# Altium integrated library alexsb.IntLib: 281 symbols (part 2 of 2)
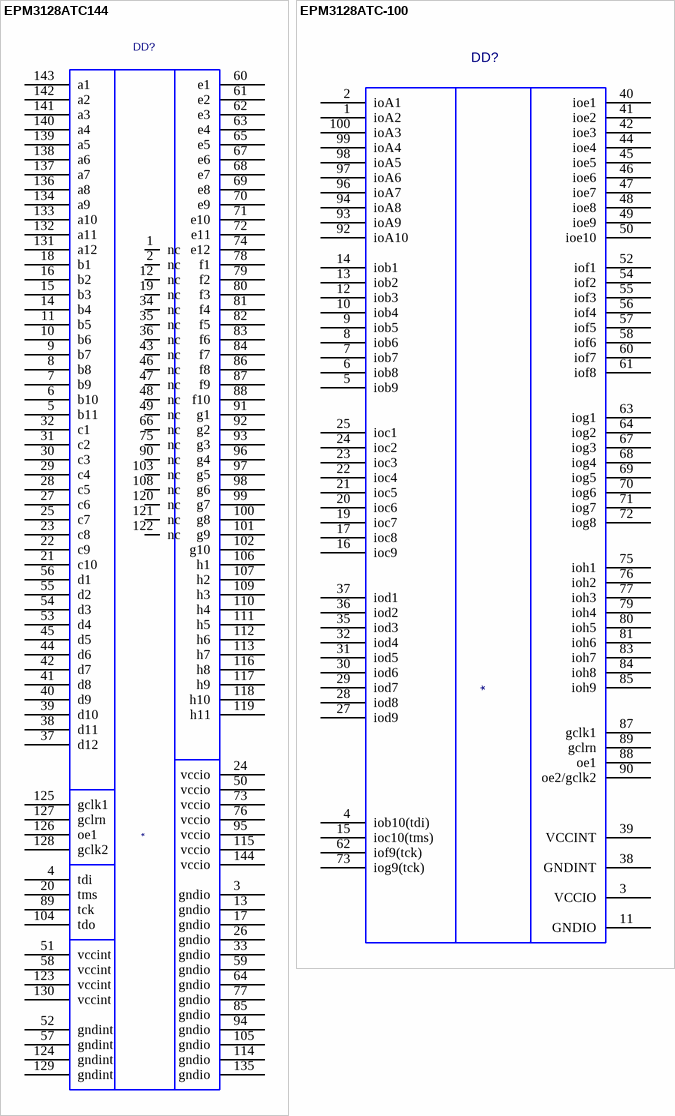
[diagram p20: symbols EPM3128ATC144 to EPM3128ATC-100]

## EPM3128ATC144
designator DD?
EPM3128ATC144; Value: *
footprint TQFP144
pins: 1 nc, 2 nc, 3 gndio, 4 tdi, 5 b11, 6 b10, 7 b9, 8 b8, 9 b7, 10 b6, 11 b5, 12 nc, 13 gndio, 14 b4, 15 b3, 16 b2, 17 gndio, 18 b1, 19 nc, 20 tms, 21 c10, 22 c9, 23 c8, 24 vccio, 25 c7, 26 gndio, 27 c6, 28 c5, 29 c4, 30 c3, 31 c2, 32 c1, 33 gndio, 34 nc, 35 nc, 36 nc, 37 d12, 38 d11, 39 d10, 40 d9, 41 d8, 42 d7, 43 nc, 44 d6, 45 d5, 46 nc, 47 nc, 48 nc, 49 nc, 50 vccio, 51 vccint, 52 gndint, 53 d4, 54 d3, 55 d2, 56 d1, 57 gndint, 58 vccint, 59 gndio, 60 e1, 61 e2, 62 e3, 63 e4, 64 gndio, 65 e5, 66 nc, 67 e6, 68 e7, 69 e8, 70 e9, 71 e10, 72 e11, 73 vccio, 74 e12, 75 nc, 76 vccio, 77 gndio, 78 f1, 79 f2, 80 f3, 81 f4, 82 f5, 83 f6, 84 f7, 85 gndio, 86 f8, 87 f9, 88 f10, 89 tck, 90 nc, 91 g1, 92 g2, 93 g3, 94 gndio, 95 vccio, 96 g4, 97 g5, 98 g6, 99 g7, 100 g8, 101 g9, 102 g10, 103 nc, 104 tdo, 105 gndio, 106 h1, 107 h2, 108 nc, 109 h3, 110 h4, 111 h5, 112 h6, 113 h7, 114 gndio, 115 vccio, 116 h8, 117 h9, 118 h10, 119 h11, 120 nc, 121 nc, 122 nc, 123 vccint, 124 gndint, 125 gclk1, 126 oe1, 127 gclrn, 128 gclk2, 129 gndint, 130 vccint, 131 a12, 132 a11, 133 a10, 134 a9, 135 gndio, 136 a8, 137 a7, 138 a6, 139 a5, 140 a4, 141 a3, 142 a2, 143 a1, 144 vccio

## EPM3128ATC-100
designator DD?
EPM3128ATC-100; Value: *
footprint TQFP100
pins: 1 ioA2, 2 ioA1, 3 VCCIO (power), 4 iob10(tdi), 5 iob9, 6 iob8, 7 iob7, 8 iob6, 9 iob5, 10 iob4, 11 GNDIO (power), 12 iob3, 13 iob2, 14 iob1, 15 ioc10(tms), 16 ioc9, 17 ioc8, 18 VCCIO (power) hidden, 19 ioc7, 20 ioc6, 21 ioc5, 22 ioc4, 23 ioc3, 24 ioc2, 25 ioc1, 26 GNDIO (power) hidden, 27 iod9, 28 iod8, 29 iod7, 30 iod6, 31 iod5, 32 iod4, 33 GNDIO (power) hidden, 34 VCCIO (power) hidden, 35 iod3, 36 iod2, 37 iod1, 38 GNDINT (power), 39 VCCINT (power), 40 ioe1, 41 ioe2, 42 ioe3, 43 GNDIO (power) hidden, 44 ioe4, 45 ioe5, 46 ioe6, 47 ioe7, 48 ioe8, 49 ioe9, 50 ioe10, 51 VCCIO (power) hidden, 52 iof1, 53 GNDIO (power) hidden, 54 iof2, 55 iof3, 56 iof4, 57 iof5, 58 iof6, 59 GNDIO (power) hidden, 60 iof7, 61 iof8, 62 iof9(tck), 63 iog1, 64 iog2, 65 GNDIO (power) hidden, 66 VCCIO (power) hidden, 67 iog3, 68 iog4, 69 iog5, 70 iog6, 71 iog7, 72 iog8, 73 iog9(tck), 74 GNDIO (power) hidden, 75 ioh1, 76 ioh2, 77 ioh3, 78 GNDIO (power) hidden, 79 ioh4, 80 ioh5, 81 ioh6, 82 VCCIO (power) hidden, 83 ioh7, 84 ioh8, 85 ioh9, 86 GNDINT (power) hidden, 87 gclk1, 88 oe1, 89 gclrn, 90 oe2/gclk2, 91 VCCINT (power) hidden, 92 ioA10, 93 ioA9, 94 ioA8, 95 GNDIO (power) hidden, 96 ioA7, 97 ioA6, 98 ioA5, 99 ioA4, 100 ioA3

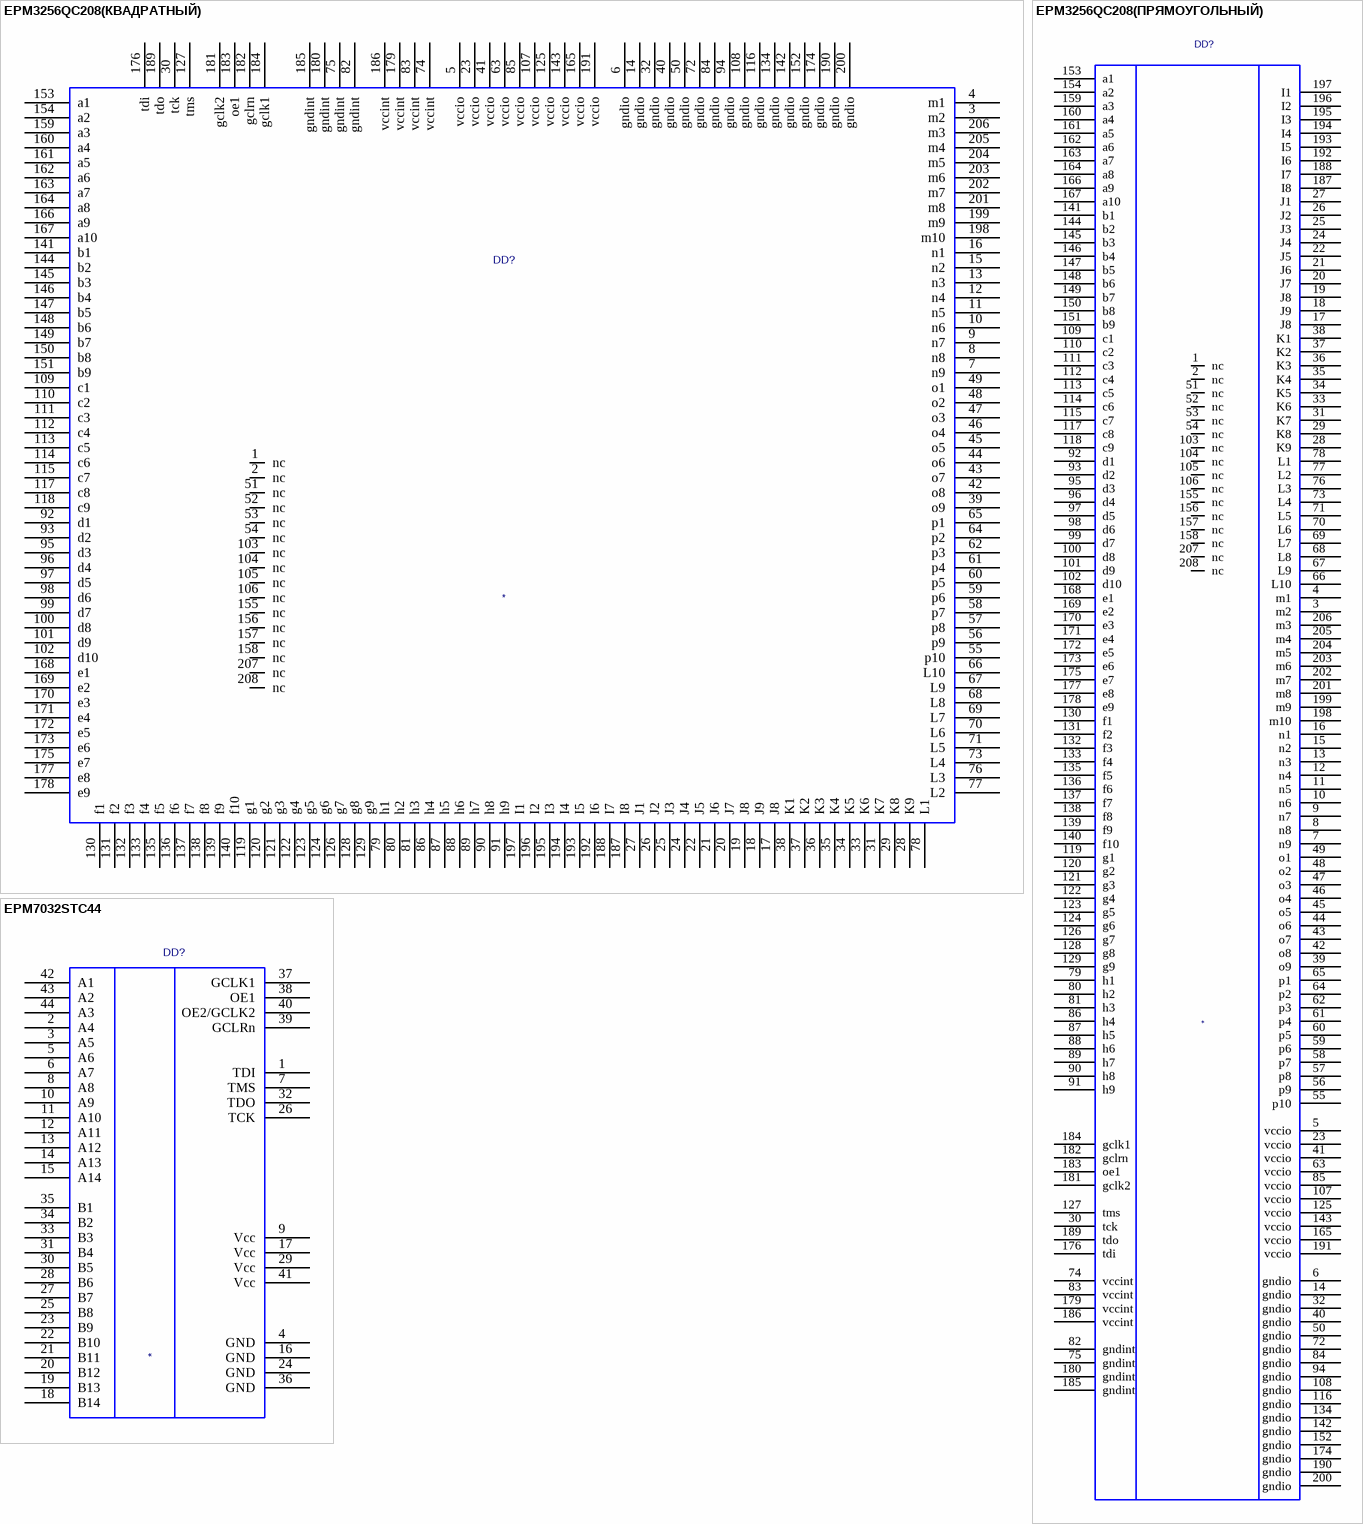
[diagram p14: symbols EPM3256QC208(КВАДРАТНЫЙ) to EPM7032STC44]

## EPM3256QC208(КВАДРАТНЫЙ)
designator DD?
EPM3256QC208(КВАДРАТНЫЙ); Value: *
footprint PQFP208
pins: 1 nc, 2 nc, 3 m2, 4 m1, 5 vccio, 6 gndio, 7 n9, 8 n8, 9 n7, 10 n6, 11 n5, 12 n4, 13 n3, 14 gndio, 15 n2, 16 n1, 17 J8, 18 J9, 19 J8, 20 J7, 21 J6, 22 J5, 23 vccio, 24 J4, 25 J3, 26 J2, 27 J1, 28 K9, 29 K8, 30 tck, 31 K7, 32 gndio, 33 K6, 34 K5, 35 K4, 36 K3, 37 K2, 38 K1, 39 o9, 40 gndio, 41 vccio, 42 o8, 43 o7, 44 o6, 45 o5, 46 o4, 47 o3, 48 o2, 49 o1, 50 gndio, 51 nc, 52 nc, 53 nc, 54 nc, 55 p10, 56 p9, 57 p8, 58 p7, 59 p6, 60 p5, 61 p4, 62 p3, 63 vccio, 64 p2, 65 p1, 66 L10, 67 L9, 68 L8, 69 L7, 70 L6, 71 L5, 72 gndio, 73 L4, 74 vccint, 75 gndint, 76 L3, 77 L2, 78 L1, 79 h1, 80 h2, 81 h3, 82 gndint, 83 vccint, 84 gndio, 85 vccio, 86 h4, 87 h5, 88 h6, 89 h7, 90 h8, 91 h9, 92 d1, 93 d2, 94 gndio, 95 d3, 96 d4, 97 d5, 98 d6, 99 d7, 100 d8, 101 d9, 102 d10, 103 nc, 104 nc, 105 nc, 106 nc, 107 vccio, 108 gndio, 109 c1, 110 c2, 111 c3, 112 c4, 113 c5, 114 c6, 115 c7, 116 gndio, 117 c8, 118 c9, 119 g1, 120 g2, 121 g3, 122 g4, 123 g5, 124 g6, 125 vccio, 126 g7, 127 tms, 128 g8, 129 g9, 130 f1, 131 f2, 132 f3, 133 f4, 134 gndio, 135 f5, 136 f6, 137 f7, 138 f8, 139 f9, 140 f10, 141 b1, 142 gndio, 143 vccio, 144 b2, 145 b3, 146 b4, 147 b5, 148 b6, 149 b7, 150 b8, 151 b9, 152 gndio, 153 a1, 154 a2, 155 nc, 156 nc, 157 nc, 158 nc, 159 a3, 160 a4, 161 a5, 162 a6, 163 a7, 164 a8, 165 vccio, 166 a9, 167 a10, 168 e1, 169 e2, 170 e3, 171 e4, 172 e5, 173 e6, 174 gndio, 175 e7, 176 tdi, 177 e8, 178 e9, 179 vccint, 180 gndint, 181 gclk2, 182 gclrn, 183 oe1, 184 gclk1, 185 gndint, 186 vccint, 187 I8, 188 I7, 189 tdo, 190 gndio, 191 vccio, 192 I6, 193 I5, 194 I4, 195 I3, 196 I2, 197 I1, 198 m10, 199 m9, 200 gndio, 201 m8, 202 m7, 203 m6, 204 m5, 205 m4, 206 m3, 207 nc, 208 nc

## EPM3256QC208(ПРЯМОУГОЛЬНЫЙ)
designator DD?
EPM3256QC208(ПРЯМОУГОЛЬНЫЙ); Value: *
footprint PQFP208
pins: 1 nc, 2 nc, 3 m2, 4 m1, 5 vccio, 6 gndio, 7 n9, 8 n8, 9 n7, 10 n6, 11 n5, 12 n4, 13 n3, 14 gndio, 15 n2, 16 n1, 17 J8, 18 J9, 19 J8, 20 J7, 21 J6, 22 J5, 23 vccio, 24 J4, 25 J3, 26 J2, 27 J1, 28 K9, 29 K8, 30 tck, 31 K7, 32 gndio, 33 K6, 34 K5, 35 K4, 36 K3, 37 K2, 38 K1, 39 o9, 40 gndio, 41 vccio, 42 o8, 43 o7, 44 o6, 45 o5, 46 o4, 47 o3, 48 o2, 49 o1, 50 gndio, 51 nc, 52 nc, 53 nc, 54 nc, 55 p10, 56 p9, 57 p8, 58 p7, 59 p6, 60 p5, 61 p4, 62 p3, 63 vccio, 64 p2, 65 p1, 66 L10, 67 L9, 68 L8, 69 L7, 70 L6, 71 L5, 72 gndio, 73 L4, 74 vccint, 75 gndint, 76 L3, 77 L2, 78 L1, 79 h1, 80 h2, 81 h3, 82 gndint, 83 vccint, 84 gndio, 85 vccio, 86 h4, 87 h5, 88 h6, 89 h7, 90 h8, 91 h9, 92 d1, 93 d2, 94 gndio, 95 d3, 96 d4, 97 d5, 98 d6, 99 d7, 100 d8, 101 d9, 102 d10, 103 nc, 104 nc, 105 nc, 106 nc, 107 vccio, 108 gndio, 109 c1, 110 c2, 111 c3, 112 c4, 113 c5, 114 c6, 115 c7, 116 gndio, 117 c8, 118 c9, 119 g1, 120 g2, 121 g3, 122 g4, 123 g5, 124 g6, 125 vccio, 126 g7, 127 tms, 128 g8, 129 g9, 130 f1, 131 f2, 132 f3, 133 f4, 134 gndio, 135 f5, 136 f6, 137 f7, 138 f8, 139 f9, 140 f10, 141 b1, 142 gndio, 143 vccio, 144 b2, 145 b3, 146 b4, 147 b5, 148 b6, 149 b7, 150 b8, 151 b9, 152 gndio, 153 a1, 154 a2, 155 nc, 156 nc, 157 nc, 158 nc, 159 a3, 160 a4, 161 a5, 162 a6, 163 a7, 164 a8, 165 vccio, 166 a9, 167 a10, 168 e1, 169 e2, 170 e3, 171 e4, 172 e5, 173 e6, 174 gndio, 175 e7, 176 tdi, 177 e8, 178 e9, 179 vccint, 180 gndint, 181 gclk2, 182 gclrn, 183 oe1, 184 gclk1, 185 gndint, 186 vccint, 187 I8, 188 I7, 189 tdo, 190 gndio, 191 vccio, 192 I6, 193 I5, 194 I4, 195 I3, 196 I2, 197 I1, 198 m10, 199 m9, 200 gndio, 201 m8, 202 m7, 203 m6, 204 m5, 205 m4, 206 m3, 207 nc, 208 nc

## EPM7032STC44
designator DD?
EPM7032STC44; Value: *
footprint TQFP44
pins: 1 TDI, 2 A4, 3 A5, 4 GND, 5 A6, 6 A7, 7 TMS, 8 A8, 9 Vcc, 10 A9, 11 A10, 12 A11, 13 A12, 14 A13, 15 A14, 16 GND, 17 Vcc, 18 B14, 19 B13, 20 B12, 21 B11, 22 B10, 23 B9, 24 GND, 25 B8, 26 TCK, 27 B7, 28 B6, 29 Vcc, 30 B5, 31 B4, 32 TDO, 33 B3, 34 B2, 35 B1, 36 GND, 37 GCLK1, 38 OE1, 39 GCLRn, 40 OE2/GCLK2, 41 Vcc, 42 A1, 43 A2, 44 A3

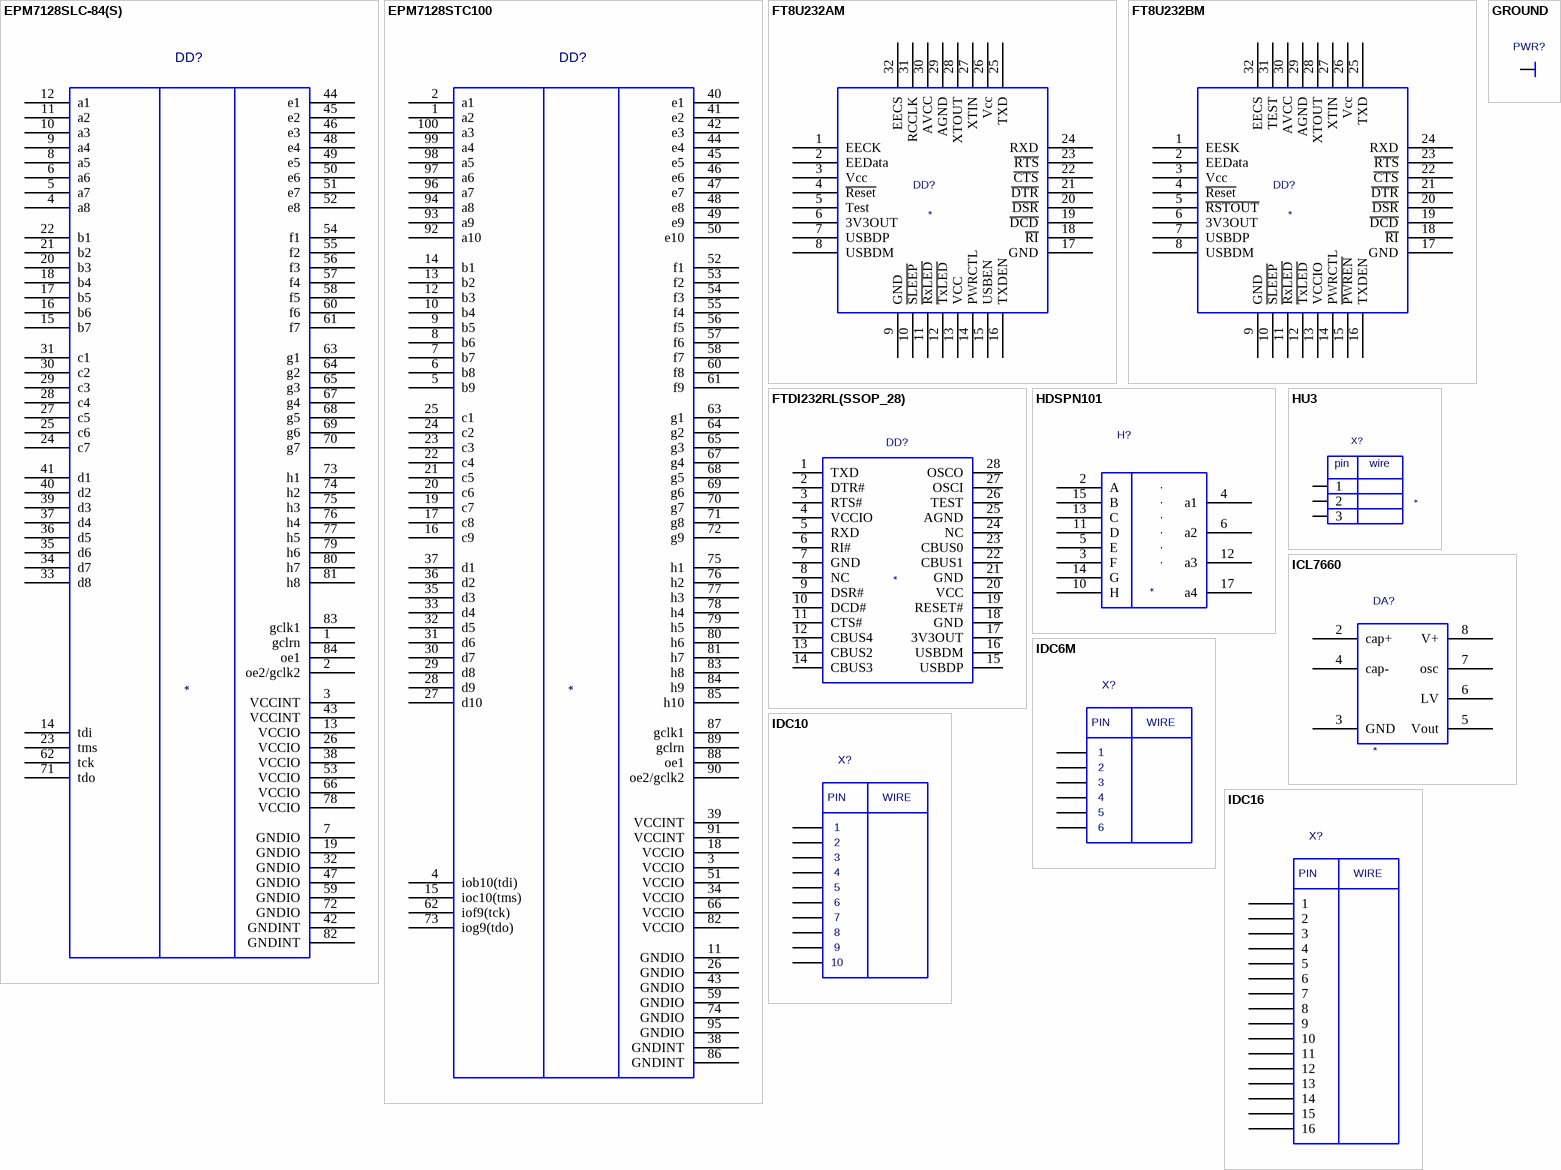
[diagram p15: symbols EPM7128SLC-84(S) to IDC16]

## EPM7128SLC-84(S)
designator DD?
EPM7128SLC-84(S); Value: *
footprint PLCCSOCKET84
pins: 1 gclrn, 2 oe2/gclk2, 3 VCCINT, 4 a8, 5 a7, 6 a6, 7 GNDIO, 8 a5, 9 a4, 10 a3, 11 a2, 12 a1, 13 VCCIO, 14 tdi, 15 b7, 16 b6, 17 b5, 18 b4, 19 GNDIO, 20 b3, 21 b2, 22 b1, 23 tms, 24 c7, 25 c6, 26 VCCIO, 27 c5, 28 c4, 29 c3, 30 c2, 31 c1, 32 GNDIO, 33 d8, 34 d7, 35 d6, 36 d5, 37 d4, 38 VCCIO, 39 d3, 40 d2, 41 d1, 42 GNDINT, 43 VCCINT, 44 e1, 45 e2, 46 e3, 47 GNDIO, 48 e4, 49 e5, 50 e6, 51 e7, 52 e8, 53 VCCIO, 54 f1, 55 f2, 56 f3, 57 f4, 58 f5, 59 GNDIO, 60 f6, 61 f7, 62 tck, 63 g1, 64 g2, 65 g3, 66 VCCIO, 67 g4, 68 g5, 69 g6, 70 g7, 71 tdo, 72 GNDIO, 73 h1, 74 h2, 75 h3, 76 h4, 77 h5, 78 VCCIO, 79 h6, 80 h7, 81 h8, 82 GNDINT, 83 gclk1, 84 oe1

## EPM7128STC100
designator DD?
EPM7128STC100; Value: *
footprint TQFP100
pins: 1 a2, 2 a1, 3 VCCIO, 4 iob10(tdi), 5 b9, 6 b8, 7 b7, 8 b6, 9 b5, 10 b4, 11 GNDIO, 12 b3, 13 b2, 14 b1, 15 ioc10(tms), 16 c9, 17 c8, 18 VCCIO, 19 c7, 20 c6, 21 c5, 22 c4, 23 c3, 24 c2, 25 c1, 26 GNDIO, 27 d10, 28 d9, 29 d8, 30 d7, 31 d6, 32 d5, 33 d4, 34 VCCIO, 35 d3, 36 d2, 37 d1, 38 GNDINT, 39 VCCINT, 40 e1, 41 e2, 42 e3, 43 GNDIO, 44 e4, 45 e5, 46 e6, 47 e7, 48 e8, 49 e9, 50 e10, 51 VCCIO, 52 f1, 53 f2, 54 f3, 55 f4, 56 f5, 57 f6, 58 f7, 59 GNDIO, 60 f8, 61 f9, 62 iof9(tck), 63 g1, 64 g2, 65 g3, 66 VCCIO, 67 g4, 68 g5, 69 g6, 70 g7, 71 g8, 72 g9, 73 iog9(tdo), 74 GNDIO, 75 h1, 76 h2, 77 h3, 78 h4, 79 h5, 80 h6, 81 h7, 82 VCCIO, 83 h8, 84 h9, 85 h10, 86 GNDINT, 87 gclk1, 88 oe1, 89 gclrn, 90 oe2/gclk2, 91 VCCINT, 92 a10, 93 a9, 94 a8, 95 GNDIO, 96 a7, 97 a6, 98 a5, 99 a4, 100 a3

## FT8U232AM
designator DD?
FT8U232AM; Value: *
footprint TQFP32
pins: 1 EECK, 2 EEData, 3 Vcc, 4 ~{Reset}, 5 Test, 6 3V3OUT, 7 USBDP, 8 USBDM, 9 GND, 10 ~{SLEEP}, 11 ~{RxLED}, 12 ~{TxLED}, 13 VCC, 14 PWRCTL, 15 USBEN, 16 TXDEN, 17 GND, 18 ~{RI}, 19 ~{DCD}, 20 ~{DSR}, 21 ~{DTR}, 22 ~{CTS}, 23 ~{RTS}, 24 RXD, 25 TXD, 26 Vcc, 27 XTIN, 28 XTOUT, 29 AGND, 30 AVCC, 31 RCCLK, 32 EECS

## FT8U232BM
designator DD?
FT8U232BM; Value: *
footprint TQFP32
pins: 1 EESK, 2 EEData, 3 Vcc, 4 ~{Reset}, 5 ~{RSTOUT}, 6 3V3OUT, 7 USBDP, 8 USBDM, 9 GND, 10 ~{SLEEP}, 11 ~{RxLED}, 12 ~{TxLED}, 13 VCCIO, 14 PWRCTL, 15 ~{PWREN}, 16 TXDEN, 17 GND, 18 ~{RI}, 19 ~{DCD}, 20 ~{DSR}, 21 ~{DTR}, 22 ~{CTS}, 23 ~{RTS}, 24 RXD, 25 TXD, 26 Vcc, 27 XTIN, 28 XTOUT, 29 AGND, 30 AVCC, 31 TEST, 32 EECS

## FTDI232RL(SSOP_28)
designator DD?
FTDI232RL(SSOP_28); Value: *
footprint SSOP_28
pins: 1 TXD, 2 DTR#, 3 RTS#, 4 VCCIO, 5 RXD, 6 RI#, 7 GND, 8 NC, 9 DSR#, 10 DCD#, 11 CTS#, 12 CBUS4, 13 CBUS2, 14 CBUS3, 15 USBDP, 16 USBDM, 17 3V3OUT, 18 GND, 19 RESET#, 20 VCC, 21 GND, 22 CBUS1, 23 CBUS0, 24 NC, 25 AGND, 26 TEST, 27 OSCI, 28 OSCO

## GROUND
designator PWR?  (value not drawn)
GROUND; Value: *
pins: 1 GROUND (power)

## HDSPN101
designator H?
HDSPN101; Value: *
footprint HDSPN101
pins: 1 n1, 2 A, 3 F, 4 a1, 5 E, 6 a2, 7 n7, 8 n8, 9 n9, 10 H, 11 D, 12 a3, 13 C, 14 G, 15 B, 16 n16, 17 a4, 18 n18

## HU3
designator X?
HU3; Value: *
footprint HU3
pins: 1, 2, 3
text: pin; wire

## ICL7660
designator DA?
ICL7660; Value: *
footprint DIP8
pins: 1 hidden, 2 cap+, 3 GND, 4 cap-, 5 Vout, 6 LV, 7 osc, 8 V+

## IDC6M
designator X?  (value not drawn)
IDC6M; Value: *
footprint IDC6M
pins: 1, 2, 3, 4, 5, 6
text: PIN; WIRE

## IDC10
designator X?  (value not drawn)
IDC10; Value: *
footprint IDC10M
pins: 1, 2, 3, 4, 5, 6, 7, 8, 9, 10
text: PIN; WIRE

## IDC16
designator X?  (value not drawn)
IDC16; Value: *
footprint IDC16M
pins: 1, 2, 3, 4, 5, 6, 7, 8, 9, 10, 11, 12, 13, 14, 15, 16
text: PIN; WIRE

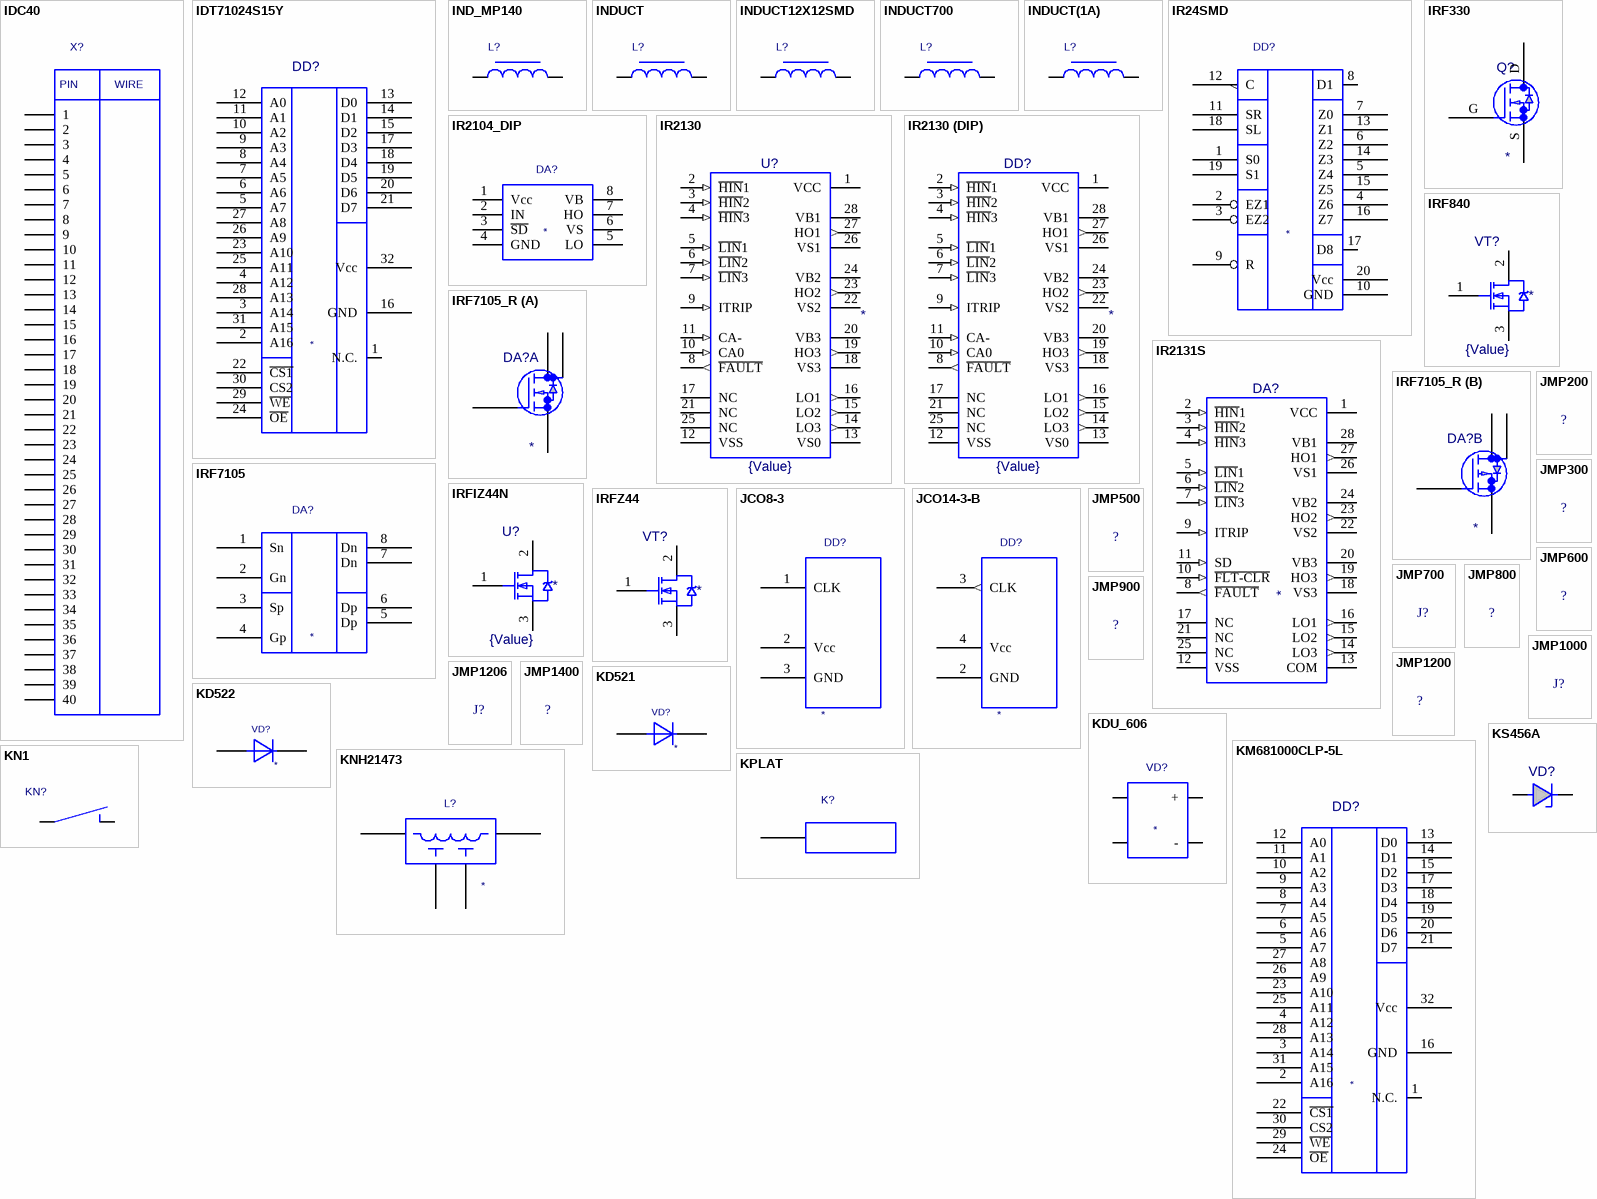
[diagram p16: symbols IDC40 to KS456A]

## IDC40
designator X?  (value not drawn)
IDC40; Value: *
footprint IDC40M
pins: 1, 2, 3, 4, 5, 6, 7, 8, 9, 10, 11, 12, 13, 14, 15, 16, 17, 18, 19, 20, 21, 22, 23, 24, 25, 26, 27, 28, 29, 30, 31, 32, 33, 34, 35, 36, 37, 38, 39, 40
text: PIN; WIRE

## IDT71024S15Y
designator DD?
IDT71024S15Y; Value: *
footprint SOJ32-400
pins: 1 N.C., 2 A16, 3 A14, 4 A12, 5 A7, 6 A6, 7 A5, 8 A4, 9 A3, 10 A2, 11 A1, 12 A0, 13 D0, 14 D1, 15 D2, 16 GND, 17 D3, 18 D4, 19 D5, 20 D6, 21 D7, 22 ~{CS1}, 23 A10, 24 ~{OE}, 25 A11, 26 A9, 27 A8, 28 A13, 29 ~{WE}, 30 CS2, 31 A15, 32 Vcc

## IND_MP140
designator L?  (value not drawn)
IND_MP140; Value: *
footprint IND_MP140
pins: 1, 2

## INDUCT
designator L?  (value not drawn)
INDUCT; Value: *
footprint RES600
pins: 1, 2

## INDUCT12X12SMD
designator L?  (value not drawn)
INDUCT12X12SMD; Value: *
footprint INDUCT12X12SMD
pins: 1, 2

## INDUCT700
designator L?  (value not drawn)
INDUCT700; Value: *
footprint RES700
pins: 1, 2

## INDUCT(1A)
designator L?  (value not drawn)
INDUCT(1A); Value: *
footprint INDUCT(1A)
pins: 1, 2

## IR24SMD
designator DD?
IR24SMD; Value: *
footprint SOJ20
pins: 1 S0, 2 EZ1, 3 EZ2, 4 Z6, 5 Z4, 6 Z2, 7 Z0, 8 D1, 9 R, 10 GND, 11 SR, 12 C, 13 Z1, 14 Z3, 15 Z5, 16 Z7, 17 D8, 18 SL, 19 S1, 20 Vcc

## IR2104_DIP
designator DA?
IR2104_DIP; Value: *
footprint DIP8
pins: 1 Vcc, 2 IN, 3 ~{SD}, 4 GND, 5 LO, 6 VS, 7 HO, 8 VB

## IR2130
designator U?  value {Value}
3-Phase Bridge Driver; OriginalName: IR2130; ComponentField1: Pins 17, 21 and 25 are not connected (NC).; ComponentField2: Published 8-Jun-2000
footprint DIP-28/D39.8
pins: 1 VCC (power), 2 ~{HIN}1 (in), 3 ~{HIN}2 (in), 4 ~{HIN}3 (in), 5 ~{LIN}1 (in), 6 ~{LIN}2 (in), 7 ~{LIN}3 (in), 8 ~{FAULT} (out), 9 ITRIP (in), 10 CA0 (in), 11 CA- (in), 12 VSS (power), 13 VS0 (power), 14 LO3 (out), 15 LO2 (out), 16 LO1 (out), 17 NC, 18 VS3 (power), 19 HO3 (out), 20 VB3 (power), 21 NC, 22 VS2 (power), 23 HO2 (out), 24 VB2 (power), 25 NC, 26 VS1 (power), 27 HO1 (out), 28 VB1 (power)

## IR2130 (DIP)
designator DD?  value {Value}
3-Phase Bridge Driver; OriginalName: IR2130; ComponentField1: Pins 17, 21 and 25 are not connected (NC).; ComponentField2: Published 8-Jun-2000
footprint DIP28
pins: 1 VCC (power), 2 ~{HIN}1 (in), 3 ~{HIN}2 (in), 4 ~{HIN}3 (in), 5 ~{LIN}1 (in), 6 ~{LIN}2 (in), 7 ~{LIN}3 (in), 8 ~{FAULT} (out), 9 ITRIP (in), 10 CA0 (in), 11 CA- (in), 12 VSS (power), 13 VS0 (power), 14 LO3 (out), 15 LO2 (out), 16 LO1 (out), 17 NC, 18 VS3 (power), 19 HO3 (out), 20 VB3 (power), 21 NC, 22 VS2 (power), 23 HO2 (out), 24 VB2 (power), 25 NC, 26 VS1 (power), 27 HO1 (out), 28 VB1 (power)

## IR2131S
designator DA?
3 High Side and 3 Low Side Driver; Value: {Value}; OriginalName: IR2131S; ComponentField1: Pins 17, 21 and 25 are not connected (NC).; ComponentField2: Published 8-Jun-2000
footprint SO-G28/Y2.3
pins: 1 VCC (power), 2 ~{HIN}1 (in), 3 ~{HIN}2 (in), 4 ~{HIN}3 (in), 5 ~{LIN}1 (in), 6 ~{LIN}2 (in), 7 ~{LIN}3 (in), 8 ~{FAULT} (out), 9 ITRIP (in), 10 ~{FLT-CLR} (in), 11 SD (in), 12 VSS (power), 13 COM (power), 14 LO3 (out), 15 LO2 (out), 16 LO1 (out), 17 NC, 18 VS3 (power), 19 HO3 (out), 20 VB3 (power), 21 NC, 22 VS2 (power), 23 HO2 (out), 24 VB2 (power), 25 NC, 26 VS1 (power), 27 HO1 (out), 28 VB1 (power)

## IRF330
designator Q?
N-Channel Enhancement-Mode MOSFET (TMOS); Value: {Value}
footprint TO-3(GSD)_IRF330(Primary)
pins: D, G, S

## IRF840
designator VT?  value {Value}
HEXFET Power MOSFET; OriginalName: IRF840; ComponentField6: Pin 2 is electrically connected to pin 4.; ComponentField7: Published 8-Jun-2000, Modified 10-July-2000: SIM Model Added.
simulation model IRF840
footprint SFM-T3/A4.7V
pins: 1 G, 2 D, 3 S

## IRF7105
designator DA?
IRF7105; Value: *
footprint SO8
pins: 1 Sn, 2 Gn, 3 Sp, 4 Gp, 5 Dp, 6 Dp, 7 Dn, 8 Dn

## IRF7105_R
designator DA?
IRF7105_R; Value: {Value}
footprint SO8
part A pins: 1 s, 2 g, 7 D1, 8 D2
part B pins: 3 s, 4 g, 5 d1, 6 d2

## IRFIZ44N
designator U?  value {Value}
HEXFET Power MOSFET; OriginalName: IRFI1010N; ComponentField7: Published 8-Jun-2000
footprint SFM-T3/A4.7V
pins: 1 G, 2 D, 3 S

## IRFZ44
designator VT?
HEXFET Power MOSFET; OriginalName: IRFZ44; ComponentField6: Pin 2 is electrically connected to pin 4.; ComponentField7: Published 8-Jun-2000, Modified 10-July-2000: SIM Model Added.; Value: *
simulation model IRFZ44
footprint SFM-T3/A4.7V
pins: 1 G, 2 D, 3 S

## JCO8-3
designator DD?
JCO8-3; Value: *
footprint JCO8-2_JCO8-3(Primary)
pins: 1 CLK, 2 Vcc, 3 GND

## JCO14-3-B
designator DD?
JCO14-3-B; Value: *
footprint JCO14-3-B
pins: 1 hidden, 2 GND (power), 3 CLK (out), 4 Vcc (power)

## JMP200
designator ?  (value not drawn)
JMP200; Value: *
footprint JMP200
pins: 1 hidden, 2 hidden

## JMP300
designator ?  (value not drawn)
JMP300; Value: *
footprint JMP300
pins: 1 hidden, 2 hidden

## JMP500
designator ?  (value not drawn)
JMP500; Value: *
footprint JMP500
pins: 1 hidden, 2 hidden

## JMP600
designator ?  (value not drawn)
JMP600; Value: *
footprint JMP600
pins: 1 hidden, 2 hidden

## JMP700
designator J?  (value not drawn)
JMP700; Value: *
footprint JMP700
pins: 1 hidden, 2 hidden

## JMP800
designator ?  (value not drawn)
JMP800; Value: *
footprint JMP800
pins: 1 hidden, 2 hidden

## JMP900
designator ?  (value not drawn)
JMP900; Value: *
footprint JMP900

## JMP1000
designator J?  (value not drawn)
JMP1000; Value: *
footprint JMP1000
pins: 1 hidden, 2 hidden

## JMP1200
designator ?  (value not drawn)
JMP1200; Value: *
footprint JMP1200
pins: 1 hidden, 2 hidden

## JMP1206
designator J?  (value not drawn)
JMP1206; Value: *
footprint JMP1206
pins: 1 hidden, 2 hidden

## JMP1400
designator ?  (value not drawn)
JMP1400; Value: *
footprint JMP1400
pins: 1 hidden, 2 hidden

## KD521
designator VD?
KD521; Value: *
footprint KD522
pins: 1 A, 2 K

## KD522
designator VD?
KD522; Value: *
footprint KD522
pins: 1 A, 2 K

## KDU_606
designator VD?
KDU_606; Value: *
footprint KDU_606_KDU_606(Primary)
pins: 1, 2, 3 +, 4 -

## KM681000CLP-5L
designator DD?
KM681000CLP-5L; Value: *
footprint DIP32
pins: 1 N.C., 2 A16, 3 A14, 4 A12, 5 A7, 6 A6, 7 A5, 8 A4, 9 A3, 10 A2, 11 A1, 12 A0, 13 D0, 14 D1, 15 D2, 16 GND, 17 D3, 18 D4, 19 D5, 20 D6, 21 D7, 22 ~{CS1}, 23 A10, 24 ~{OE}, 25 A11, 26 A9, 27 A8, 28 A13, 29 ~{WE}, 30 CS2, 31 A15, 32 Vcc

## KN1
designator KN?  (value not drawn)
KN1; Value: *
footprint KN1
pins: 1, 2 hidden, 3 hidden, 4 2, 5 hidden, 6 hidden

## KNH21473
designator L?
KNH21473; Value: *
footprint KNH21473
pins: 1, 2, 3, 4

## KPLAT
designator K?  (value not drawn)
KPLAT; Value: *
footprint PIN
pins: 1

## KS456A
designator VD?  (value not drawn)
KS456A; Value: *
footprint KS456A
pins: 1, 2

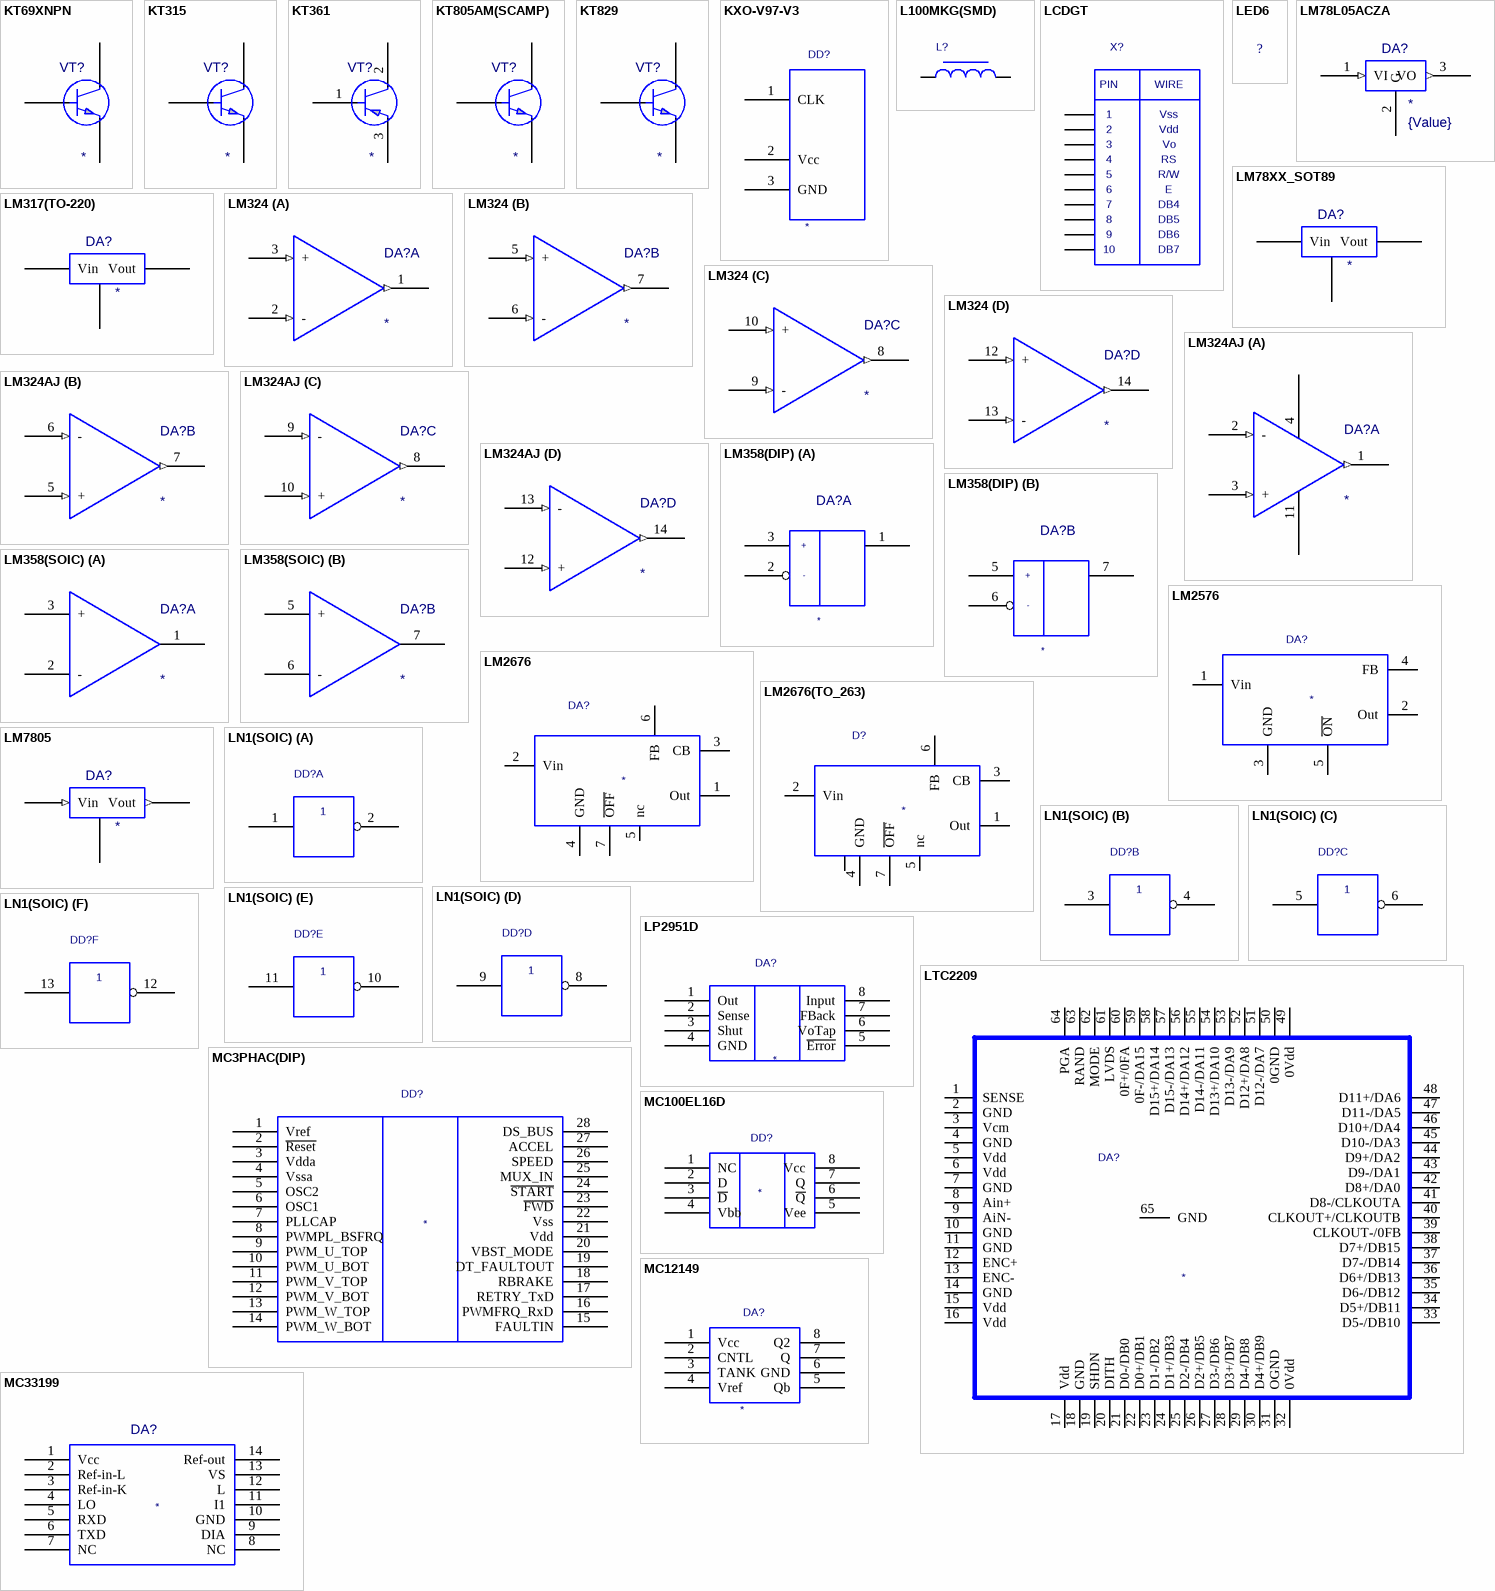
[diagram p17: symbols KT69XNPN to MC33199]

## KT69XNPN
designator VT?
KT69XNPN; Value: {Value}
footprint TO-92
pins: 1, 2, 3

## KT315
designator VT?
KT315; Value: {Value}
footprint KT315
pins: 1, 2, 3

## KT361
designator VT?
KT361; Value: {Value}
footprint KT315
pins: 1, 2, 3

## KT805AM(SCAMP)
designator VT?
KT805AM(SCAMP); Value: {Value}
footprint TO-220(SCAMP)
pins: 1, 2, 3

## KT829
designator VT?
KT829; Value: {Value}
footprint KT829
pins: 1, 2, 3, 4 hidden

## KXO-V97-V3
designator DD?
KXO-V97-V3; Value: *
footprint KXO-V97-V3_KXO-V97-V3(Primary)
pins: 1 CLK, 2 Vcc, 3 GND

## L100MKG(SMD)
designator L?  (value not drawn)
L100MKG(SMD); Value: *
footprint RC1206
pins: 1, 2

## LCDGT
designator X?  (value not drawn)
LCDGT; Value: *
footprint LCDGT
pins: 1, 2, 3, 4, 5, 6, 7, 8, 9, 10
text: PIN; WIRE; Vss; Vdd; Vo; RS; R/W; E; DB4; DB5; DB6; DB7

## LED6
designator ?  (value not drawn)
LED6; Value: *
footprint LED6
pins: 1 hidden, 2 hidden, 3 hidden, 4 hidden, 5 hidden, 6 hidden, 7 hidden, 8 hidden, 9 hidden, 10 hidden, 11 hidden, 12 hidden

## LM78L05ACZA
designator DA?  value {Value}
5 Volt 3-Terminal Positive REGULATOR
footprint TO-92
pins: 1 VI (in), 2 G (power), 3 VO (out)

## LM78XX_SOT89
designator DA?
LM78XX_SOT89; Value: *
footprint SOT89_LM78XX_SOT89(Primary)
pins: 1 Vin, 2 adj, 3 Vout

## LM317(TO-220)
designator DA?
LM317(TO-220); Value: *
footprint TO-220
pins: 1 adj, 2 Vout, 3 Vin

## LM324
designator DA?
LM324; Value: *
footprint DIP14
pins on every part: 4 vcc (power) hidden, 11 vee (power) hidden
part A pins: 1 out (out), 2 - (in), 3 + (in)
part B pins: 5 + (in), 6 - (in), 7 out (out)
part C pins: 8 out (out), 9 - (in), 10 + (in)
part D pins: 12 + (in), 13 - (in), 14 out (out)

## LM324AJ
designator DA?
Low Power Quad Operational Amplifier; Value: *
footprint DIP14
part A pins: 1 OUT (out), 2 - (in), 3 + (in), 4 V+ (power), 11 GND (power)
part B pins: 5 + (in), 6 - (in), 7 OUT (out)
part C pins: 8 OUT (out), 9 - (in), 10 + (in)
part D pins: 12 + (in), 13 - (in), 14 OUT (out)

## LM358(DIP)
designator DA?
LM358(DIP); Value: *
footprint DIP8
pins on every part: 4 Vee (power) hidden, 8 Vcc (power) hidden
part A pins: 1 OUT, 2 in-, 3 IN+
part B pins: 5 IN+, 6 in-, 7 OUT
part A text: +; -
part B text: +; -

## LM358(SOIC)
designator DA?
LM358(SOIC); Value: *
footprint SO8
pins on every part: 4 Vss (power) hidden, 8 Vcc (power) hidden
part A pins: 1 out, 2 -, 3 +
part B pins: 5 +, 6 -, 7 out

## LM2576
designator DA?
LM2576; Value: *
footprint LM2576
pins: 1 Vin, 2 Out, 3 GND, 4 FB, 5 ~{ON}

## LM2676
designator DA?
LM2676; Value: *
footprint LM2676
pins: 1 Out, 2 Vin, 3 CB, 4 GND, 5 nc, 6 FB, 7 ~{OFF}

## LM2676(TO_263)
designator D?
LM2676(TO_263); Value: *
footprint LM2676(TO263)
pins: 1 Out, 2 Vin, 3 CB, 4 GND, 5 nc, 6 FB, 7 ~{OFF}, 8 GND

## LM7805
designator DA?
LM7805; Value: *
footprint TO-220AB
pins: 1 Vin (in), 2, 3 Vout (out)

## LN1(SOIC)
designator DD?  (value not drawn)
LN1(SOIC); Value: *
footprint SO14
pins on every part: 7 Vcc (power) hidden, 14 GND (power) hidden
part A pins: 1 in, 2 out
part B pins: 3 in, 4 out
part C pins: 5 in, 6 out
part D pins: 8 out, 9 in
part E pins: 10 out, 11 in
part F pins: 12 out, 13 in

## LP2951D
designator DA?
LP2951D; Value: *
footprint DIP8
pins: 1 Out, 2 Sense, 3 Shut, 4 GND, 5 ~{Error}, 6 VoTap, 7 FBack, 8 Input

## LTC2209
designator DA?
LTC2209; Value: *
footprint LTC2209
pins: 1 SENSE, 2 GND, 3 Vcm, 4 GND, 5 Vdd, 6 Vdd, 7 GND, 8 Ain+, 9 AiN-, 10 GND, 11 GND, 12 ENC+, 13 ENC-, 14 GND, 15 Vdd, 16 Vdd, 17 Vdd, 18 GND, 19 SHDN, 20 DITH, 21 D0-/DB0, 22 D0+/DB1, 23 D1-/DB2, 24 D1+/DB3, 25 D2-/DB4, 26 D2+/DB5, 27 D3-/DB6, 28 D3+/DB7, 29 D4-/DB8, 30 D4+/DB9, 31 OGND, 32 0Vdd, 33 D5-/DB10, 34 D5+/DB11, 35 D6-/DB12, 36 D6+/DB13, 37 D7-/DB14, 38 D7+/DB15, 39 CLKOUT-/0FB, 40 CLKOUT+/CLKOUTB, 41 D8-/CLKOUTA, 42 D8+/DA0, 43 D9-/DA1, 44 D9+/DA2, 45 D10-/DA3, 46 D10+/DA4, 47 D11-/DA5, 48 D11+/DA6, 49 0Vdd, 50 0GND, 51 D12-/DA7, 52 D12+/DA8, 53 D13-/DA9, 54 D13+/DA10, 55 D14-/DA11, 56 D14+/DA12, 57 D15-/DA13, 58 D15+/DA14, 59 0F-/DA15, 60 0F+/0FA, 61 LVDS, 62 MODE, 63 RAND, 64 PGA, 65 GND

## MC3PHAC(DIP)
designator DD?
MC3PHAC(DIP); Value: *
footprint DIP28
pins: 1 Vref, 2 ~{Reset}, 3 Vdda, 4 Vssa, 5 OSC2, 6 OSC1, 7 PLLCAP, 8 PWMPL_BSFRQ, 9 PWM_U_TOP, 10 PWM_U_BOT, 11 PWM_V_TOP, 12 PWM_V_BOT, 13 PWM_W_TOP, 14 PWM_W_BOT, 15 FAULTIN, 16 PWMFRQ_RxD, 17 RETRY_TxD, 18 RBRAKE, 19 DT_FAULTOUT, 20 VBST_MODE, 21 Vdd, 22 Vss, 23 ~{FWD}, 24 ~{START}, 25 MUX_IN, 26 SPEED, 27 ACCEL, 28 DS_BUS

## MC100EL16D
designator DD?
MC100EL16D; Value: *
footprint SO8
pins: 1 NC, 2 D, 3 ~{D}, 4 Vbb, 5 Vee, 6 ~{Q}, 7 Q, 8 Vcc

## MC12149
designator DA?
MC12149; Value: *
footprint SO8
pins: 1 Vcc, 2 CNTL, 3 TANK, 4 Vref, 5 Qb, 6 GND, 7 Q, 8 Q2

## MC33199
designator DA?
MC33199; Value: *
footprint SO14
pins: 1 Vcc, 2 Ref-in-L, 3 Ref-in-K, 4 LO, 5 RXD, 6 TXD, 7 NC, 8 NC, 9 DIA, 10 GND, 11 I1, 12 L, 13 VS, 14 Ref-out

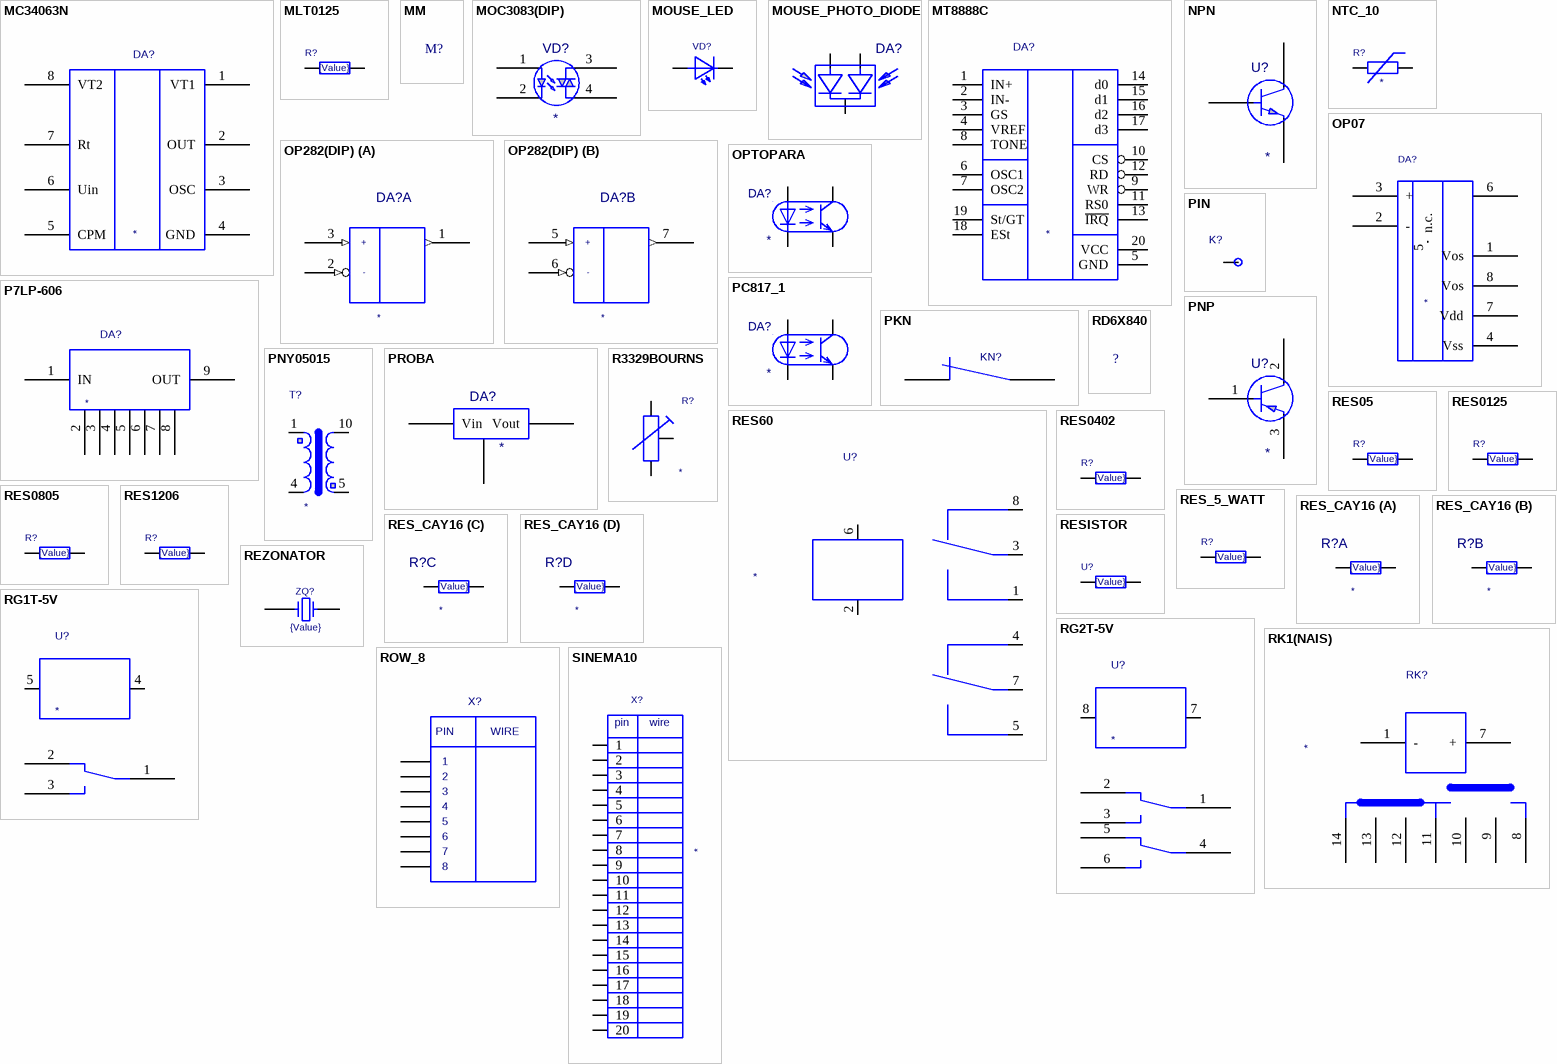
[diagram p18: symbols MC34063N to SINEMA10]

## MC34063N
designator DA?
MC34063N; Value: *
footprint DIP8
pins: 1 VT1, 2 OUT, 3 OSC, 4 GND, 5 CPM, 6 Uin, 7 Rt, 8 VT2

## MLT0125
designator R?  value {Value}  (hidden comment: *)
MLT0125
footprint MLT0125
pins: 1, 2

## MM
designator M?  (value not drawn)
MM; Value: *

## MOC3083(DIP)
designator VD?
MOC3083(DIP); Value: *
footprint DIP6_MOC3083(DIP)(Primary)
pins: 1, 2, 3, 4

## MOUSE_LED
designator VD?  (value not drawn)
MOUSE_LED; Value: *
footprint MOUSE_LED
pins: 1 a, 2 k

## MOUSE_PHOTO_DIODE
designator DA?  (value not drawn)
MOUSE_PHOTO_DIODE; Value: {Value}
footprint MOUSE_PHOTO_DIODE
pins: 1, 2, 3

## MT8888C
designator DA?
MT8888C; Value: *
footprint DIP20
pins: 1 IN+, 2 IN-, 3 GS, 4 VREF, 5 GND (power), 6 OSC1, 7 OSC2, 8 TONE, 9 WR, 10 CS, 11 RS0, 12 RD, 13 ~{IRQ}, 14 d0, 15 d1, 16 d2, 17 d3, 18 ESt, 19 St/GT, 20 VCC

## NPN
designator U?
NPN; Value: {Value}
pins: 1, 2, 3

## NTC_10
designator R?
NTC_10; Value: *
footprint NTC_10
pins: 1, 2

## OP07
designator DA?
OP07; Value: *
footprint DIP8
pins: 1 Vos, 2 -, 3 +, 4 Vss, 5 n.c., 6 out, 7 Vdd, 8 Vos

## OP282(DIP)
designator DA?
OP282(DIP); Value: *
footprint DIP8
pins on every part: 4 Vee (power) hidden, 8 Vcc (power) hidden
part A pins: 1 OUT (out), 2 in- (in), 3 IN+ (in)
part B pins: 5 IN+ (in), 6 in- (in), 7 OUT (out)
part A text: +; -
part B text: +; -

## OPTOPARA
designator DA?
OPTOPARA; Value: {Value}
footprint OPTOPARA
pins: 1 a, 2 k, 3 e, 4 kol, 5 hidden, 6 hidden, 7 hidden, 8 hidden

## P7LP-606
designator DA?
P7LP-606; Value: *
footprint P7LP-606
pins: 1 IN, 2 G0, 3 G0, 4 G0, 5 G0, 6 G0, 7 G0, 8 G0, 9 OUT

## PC817_1
designator DA?
PC817_1; Value: {Value}
footprint DIP4
pins: 1 a, 2 k, 3 e, 4 kol

## PIN
designator K?  (value not drawn)
PIN; Value: *
footprint PIN
pins: 1 0

## PKN
designator KN?  (value not drawn)
PKN; Value: *
footprint PKN
pins: 1, 2, 3 hidden, 4 hidden

## PNP
designator U?
PNP; Value: {Value}
pins: 1, 2, 3

## PNY05015
designator T?
PNY05015; Value: *
footprint PNY05015
pins: 1, 2 hidden, 3 hidden, 4, 5, 6 hidden, 7 hidden, 8 hidden, 9 hidden, 10

## PROBA
designator DA?
PROBA; Value: *
footprint SOT89_PROBA(Primary)
pins: 1 Vin, 2 adj, 3 Vout

## R3329BOURNS
designator R?
R3329BOURNS; Value: *
footprint R3329BOURNS
pins: 1, 2, 3

## RD6X840
designator ?  (value not drawn)
RD6X840; Value: *
footprint RD6X840

## RES05
designator R?  value {Value}  (hidden comment: *)
RES05
footprint RES600
pins: 1, 2

## RES60
designator U?
RES60; Value: *
footprint RES60
pins: 1, 2 b, 3, 4, 5, 6 a, 7, 8

## RES0125
designator R?  value {Value}  (hidden comment: *)
RES0125
footprint MLT0125
pins: 1, 2

## RES0402
designator R?  value {Value}  (hidden comment: *)
RES0402
footprint CC0402
pins: 1, 2

## RES0805
designator R?  value {Value}  (hidden comment: *)
RES0805
footprint RC0805
pins: 1, 2

## RES1206
designator R?  value {Value}  (hidden comment: *)
RES1206
footprint RC1206
pins: 1, 2

## RES_5_WATT
designator R?  value {Value}  (hidden comment: *)
RES_5_WATT
footprint RES_5_WATT
pins: 1, 2

## RES_CAY16
designator R?  value {Value}
RES_CAY16
footprint CAY16
part A pins: 1, 8 2
part B pins: 2 1, 7 2
part C pins: 3 1, 6 2
part D pins: 4 1, 5 2

## RESISTOR
designator U?  value {Value}  (hidden comment: *)
RESISTOR
pins: 1, 2

## REZONATOR
designator ZQ?  value {Value}  (hidden comment: *)
REZONATOR
footprint CRYSTAL_Primary
footprint CRYSTAL_down
pins: 1, 2

## RG1T-5V
designator U?
RG1T-5V; Value: *
pins: 1 in1, 2 out11, 3 out12, 4 coil2, 5 coil1

## RG2T-5V
designator U?
RG2T-5V; Value: *
pins: 1 in1, 2 out11, 3 out12, 4 in1, 5 out11, 6 out12, 7 coil2, 8 coil1

## RK1(NAIS)
designator RK?
RK1(NAIS); Value: *
footprint RK1_RK1(NAIS)(Primary)
pins: 1 -, 7 +, 8, 9, 10, 11, 12, 13, 14

## ROW_8
designator X?  (value not drawn)
ROW_8; Value: *
footprint ROW_8
pins: 1, 2, 3, 4, 5, 6, 7, 8
text: PIN; WIRE

## SINEMA10
designator X?
SINEMA10; Value: *
footprint SINEMA10
pins: 1, 2, 3, 4, 5, 6, 7, 8, 9, 10, 11, 12, 13, 14, 15, 16, 17, 18, 19, 20
text: pin; wire

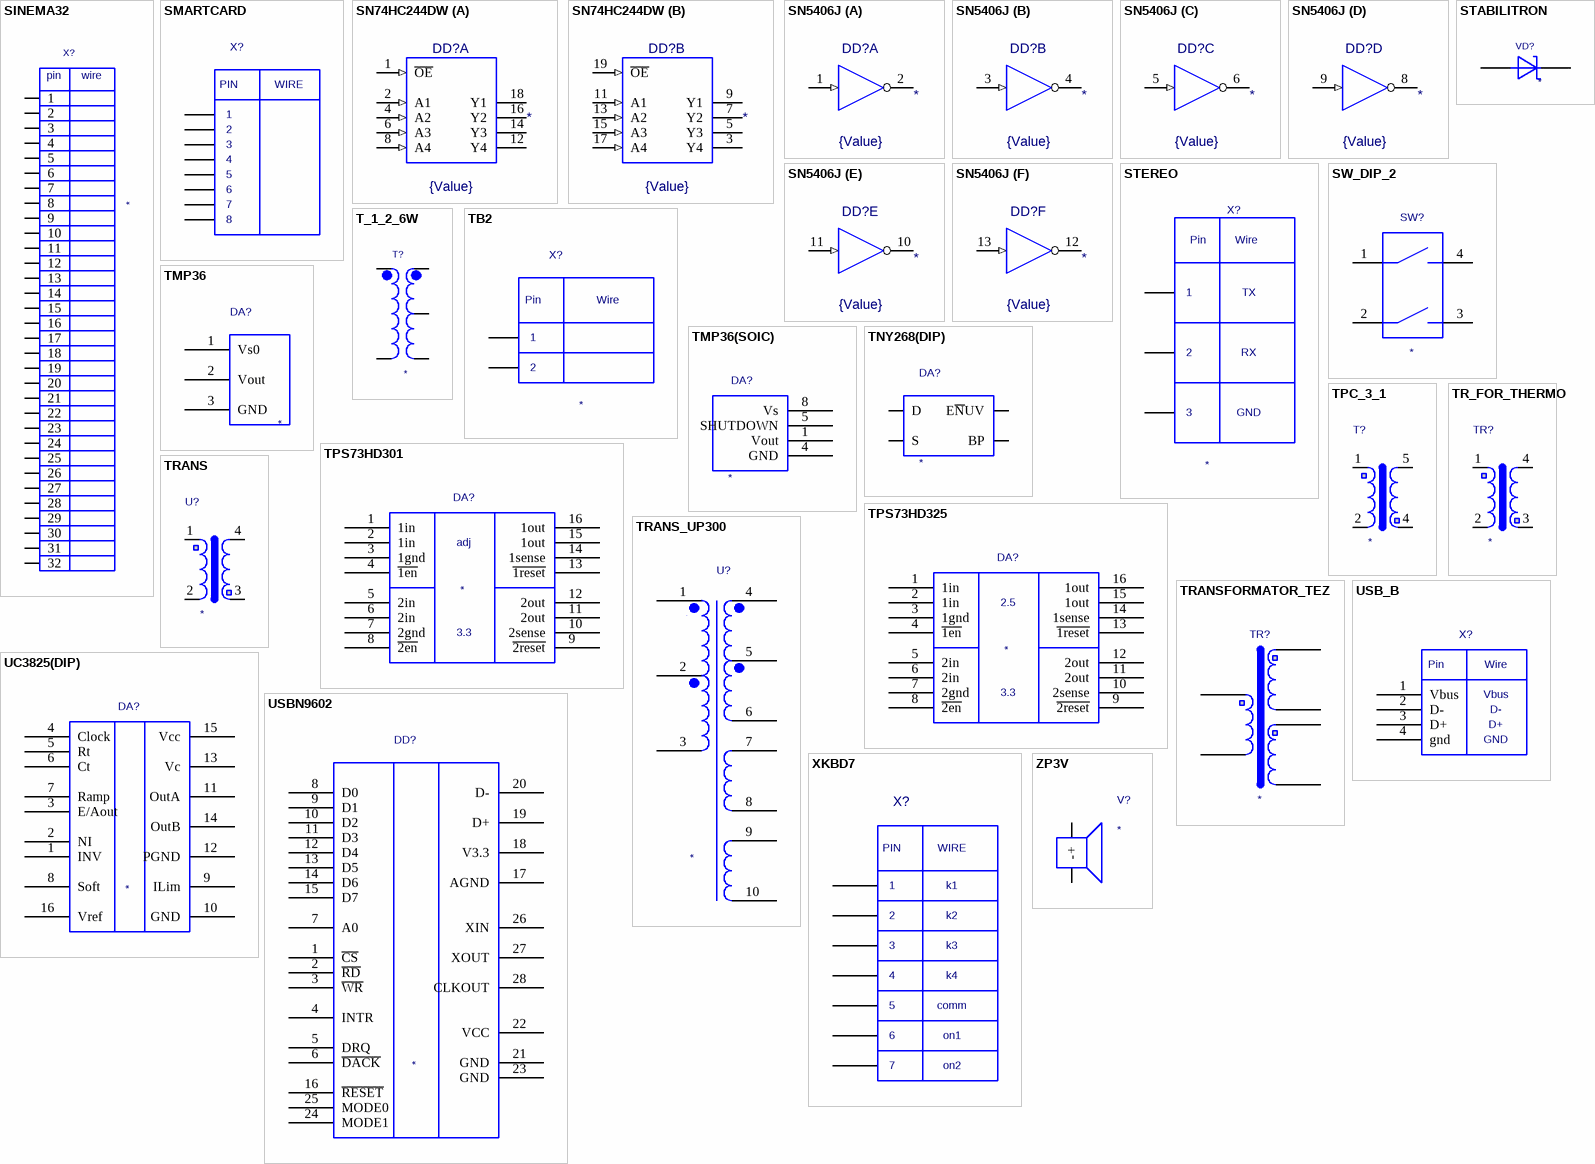
[diagram p19: symbols SINEMA32 to ZP3V]

## SINEMA32
designator X?
SINEMA32; Value: *
footprint SINEMA32
pins: 1, 2, 3, 4, 5, 6, 7, 8, 9, 10, 11, 12, 13, 14, 15, 16, 17, 18, 19, 20, 21, 22, 23, 24, 25, 26, 27, 28, 29, 30, 31, 32
text: pin; wire

## SMARTCARD
designator X?  (value not drawn)
SMARTCARD; Value: *
footprint SMARTCARD
pins: 1, 2, 3, 4, 5, 6, 7, 8
text: PIN; WIRE

## SN74HC244DW
designator DD?  value {Value}
Octal Buffer and Line Driver with 3-State Outputs; OriginalName: SN74ALS244ADW; ComponentField6: Power pins are hidden; ComponentField7: Published 8-Jun-2000
footprint SO-G20/G7.1
pins on every part: 10 GND (power) hidden, 20 VCC (power) hidden
part A pins: 1 ~{OE} (in), 2 A1 (in), 4 A2 (in), 6 A3 (in), 8 A4 (in), 12 Y4 (hiz), 14 Y3 (hiz), 16 Y2 (hiz), 18 Y1 (hiz)
part B pins: 3 Y4 (hiz), 5 Y3 (hiz), 7 Y2 (hiz), 9 Y1 (hiz), 11 A1 (in), 13 A2 (in), 15 A3 (in), 17 A4 (in), 19 ~{OE} (in)

## SN5406J
designator DD?  value {Value}
Hex Inverter Buffer / Driver with Open-Collector High-Voltage Outputs; OriginalName: SN5406J; ComponentField6: Power pins are hidden.; ComponentField7: Published 8-Jun-2000
simulation model SN7406
footprint DIP-14
pins on every part: 7 GND (power) hidden, 14 VCC (power) hidden
part A pins: 1 A (in), 2 Y (oe)
part B pins: 3 A (in), 4 Y (oe)
part C pins: 5 A (in), 6 Y (oe)
part D pins: 8 Y (oe), 9 A (in)
part E pins: 10 Y (oe), 11 A (in)
part F pins: 12 Y (oe), 13 A (in)

## STABILITRON
designator VD?
STABILITRON; Value: *
pins: 1, 2

## STEREO
designator X?
STEREO; Value: *
footprint STEREO
pins: 1 tx, 2 rx, 3 gnd, 4 hidden, 5 hidden
text: Pin; Wire; TX; RX; GND

## SW_DIP_2
designator SW?
SW_DIP_2; Value: *
footprint SW_DIP_2
pins: 1 0, 2, 3, 4 1

## T_1_2_6W
designator T?
T_1_2_6W; Value: *
footprint T_2_1_6W
pins: 1, 2 1, 3 1, 4 1, 6 1

## TB2
designator X?
TB2; Value: *
footprint TB2
pins: 1, 2
text: Pin; Wire

## TMP36
designator DA?
TMP36; Value: *
footprint TO-92(KGA)_TMP36(Primary)
pins: 1 Vs0, 2 Vout, 3 GND

## TMP36(SOIC)
designator DA?
TMP36(SOIC); Value: *
footprint SO8
pins: 1 Vout, 2 hidden, 3 hidden, 4 GND, 5 SHUTDOWN, 6 hidden, 7 hidden, 8 Vs

## TNY268(DIP)
designator DA?
TNY268(DIP); Value: *
footprint DIP8
pins: 1 BP, 2 S, 3 S hidden, 4 E~{N}UV, 5 D, 6 hidden, 7 S hidden, 8 S hidden

## TPC_3_1
designator T?
TPC_3_1; Value: *
footprint TPC_3_1
pins: 1 a, 2 b, 3 hidden, 4 c, 5 d, 6 hidden, 7 hidden, 8 hidden

## TPS73HD301
designator DA?
TPS73HD301; Value: *
footprint TPS73HD325_TPS73HD301(Primary)
pins: 1 1in, 2 1in, 3 1gnd, 4 ~{1en}, 5 2in, 6 2in, 7 2gnd, 8 ~{2en}, 9 ~{2reset}, 10 2sense, 11 2out, 12 2out, 13 ~{1reset}, 14 1sense, 15 1out, 16 1out
text: adj; 3.3

## TPS73HD325
designator DA?
TPS73HD325; Value: *
footprint TPS73HD325_TPS73HD325(Primary)
pins: 1 1in, 2 1in, 3 1gnd, 4 ~{1en}, 5 2in, 6 2in, 7 2gnd, 8 ~{2en}, 9 ~{2reset}, 10 2sense, 11 2out, 12 2out, 13 ~{1reset}, 14 1sense, 15 1out, 16 1out
text: 2.5; 3.3

## TR_FOR_THERMO
designator TR?
TR_FOR_THERMO; Value: *
footprint TR_FOR_THERMO
pins: 1 a, 2 b, 3 c, 4 d

## TRANS
designator U?
TRANS; Value: *
pins: 1 a, 2 b, 3 c, 4 d

## TRANS_UP300
designator U?
TRANS_UP300; Value: *
pins: 1, 2, 3, 4, 5, 6, 7, 8, 9, 10

## TRANSFORMATOR_TEZ
designator TR?
TRANSFORMATOR_TEZ; Value: *
footprint TRANSFORMATOR_TEZ
pins: 1, 2 hidden, 3 hidden, 4 hidden, 5 2, 6 4, 7 3, 8 hidden, 9 5, 10 6

## UC3825(DIP)
designator DA?
UC3825(DIP); Value: *
footprint DIP16
pins: 1 INV, 2 NI, 3 E/Aout, 4 Clock, 5 Rt, 6 Ct, 7 Ramp, 8 Soft, 9 ILim, 10 GND, 11 OutA, 12 PGND, 13 Vc, 14 OutB, 15 Vcc, 16 Vref

## USB_B
designator X?  (value not drawn)
USB_B; Value: *
footprint USB_B
pins: 1 Vbus, 2 D-, 3 D+, 4 gnd, 5 hidden, 6 hidden
text: Pin; Wire; GND

## USBN9602
designator DD?
USBN9602; Value: *
footprint SOIC28(R-28)
pins: 1 ~{CS}, 2 ~{RD}, 3 ~{WR}, 4 INTR, 5 DRQ, 6 ~{DACK}, 7 A0, 8 D0, 9 D1, 10 D2, 11 D3, 12 D4, 13 D5, 14 D6, 15 D7, 16 ~{RESET}, 17 AGND, 18 V3.3, 19 D+, 20 D-, 21 GND, 22 VCC, 23 GND, 24 MODE1, 25 MODE0, 26 XIN, 27 XOUT, 28 CLKOUT

## XKBD7
designator X?  (value not drawn)
XKBD7; Value: *
footprint XKBD
pins: 1 k1, 2 k2, 3 k3, 4 k4, 5 comm, 6 on1, 7 on2
text: PIN; WIRE

## ZP3V
designator V?
ZP3V; Value: *
footprint ZP3V
pins: 1 +, 2 -